# EAGLE library part IC_TPS6120X (library STM32-PROX)
Low input voltage Synchronous Boost converter
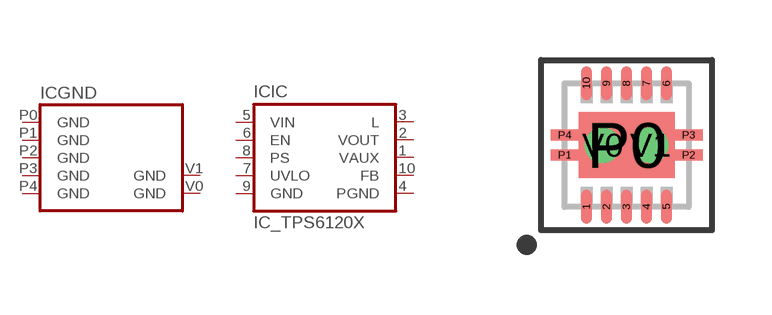
[diagram p5: symbol with the pads of QFN-10; footprint QFN-10]

Designator prefix IC; gates GND=QFN-10-GND IC=TPS6120X

## IC_TPS6120XQFN10  [QFN-10]
1  IC:VAUX
2  IC:VOUT  out
3  IC:L  in
4  IC:PGND  pwr
5  IC:VIN  in
6  IC:EN  in
7  IC:UVLO  in
8  IC:PS  in
9  IC:GND  pwr
10  IC:FB  in
P0  GND:GND  pwr
P1  GND:GND  pwr
P2  GND:GND  pwr
P3  GND:GND  pwr
P4  GND:GND  pwr
V0  GND:GND  pwr
V1  GND:GND  pwr

## Footprint QFN-10 (pad centres in mm)
10 pins Quad Flat Leadless Size: 3 x 3 mm Pads: 0.85 x 0.28 mm pads Pin Pitch: 0.5mm pitch
smd 0.28 x 0.85: 1 -1,-1.545; 2 -0.5,-1.545; 3 0,-1.545; 4 0.5,-1.545; 5 1,-1.545; 6 1,1.545; 7 0.5,1.545; 8 0,1.545; 9 -0.5,1.545; 10 -1,1.545
smd 2.4 x 1.65: P0 0,0
smd 0.7 x 0.28: P1 -1.55,-0.25; P2 1.55,-0.25; P3 1.55,0.25; P4 -1.55,0.25
drill 0.381: V0 -0.6,0; V1 0.6,0